# Altium footprint library BSPD_pcblibrary.PcbLib: 22 footprints (part 2 of 2)
Each footprint in its own frame and in the unit in brackets; x right, y up, seen from the top. Pads: shape width x height; smd on the part's side, far side on the other; paste and mask are expansions set on the pad; w line width, h text height; cw(c..) or ccw(c..) is an arc to the next point about the centre after c.
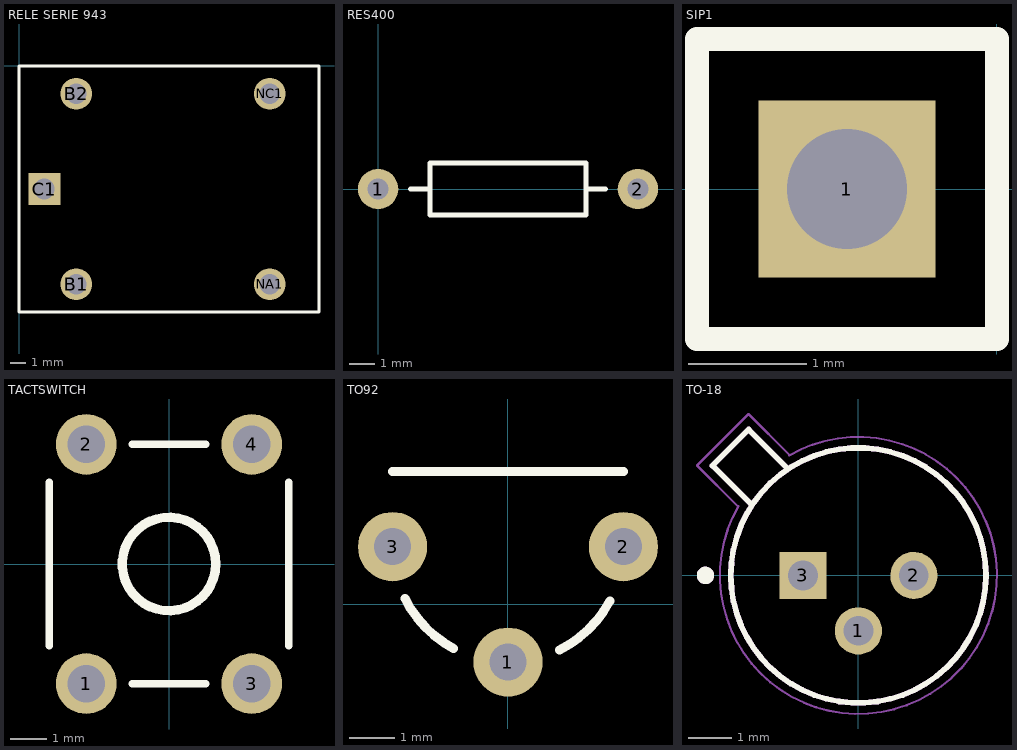
[diagram p1: the footprints below, top view; thin cyan lines are the x and y axes]

## RELE SERIE 943 [mm]
pads (5):
  round 2 hole 1.3: B1(3.6,-13.75) B2(3.6,-1.75) NA1(15.8,-13.75) NC1(15.8,-1.75)
  rect 2x2 hole 1.3: C1(1.6,-7.75)
Top Overlay:
  lines w0.2: 0,-15.5 18.9,-15.5 18.9,0 0,0 0,-15.5
3D body "SRD-05VDC-SL-C.STEP": height 15.81, standoff -2.99, extent -0.075,-15.674 19.125,-0.074

## RES400 [mil]
pads (2):
  round 62 hole 32: 1(0,0) 2(400,0)
Top Overlay:
  lines w7.87: 50,0 80,0 ; 320,0 350,0 ; 80,-40 80,40 320,40 320,-40 80,-40
3D body "RES400.step": height 95.81, standoff -119.69, extent -12,-45 412,46

## SIP1 [mm]
pads (1):
  rect 1.5x1.5 hole 1.016: 1(-1.27,0)
Top Overlay:
  lines w0.2: -2.54,-1.27 -2.54,1.27 0,1.27 0,-1.27 -2.54,-1.27

## TACTSWITCH [mil]
pads (4):
  round 65 hole 40: 1(-88.58,-127.95) 2(-88.58,127.95) 3(88.58,-127.95) 4(88.58,127.95)
Top Overlay:
  circle w10: c0,0 r50
  lines w7.87: -128.11,-87.48 -128.11,87.52 ; -39.37,-128.11 39.37,-128.11 ; -39.37,128.11 39.37,128.11 ; 128.11,-87.52 128.11,87.48
3D body "TACTSWITCH.step": height 275.59, standoff -137.8, extent -120,-155.51 124.1,155.51

## TO92 [mil]
pads (3):
  round 60 hole 32: 1(0,-50) 2(100,50) 3(-100,50)
Top Overlay:
  lines w7.87: -100,115 100,115 ; -89.44,5.28 ccw(c0,50) -47.06,-38.24 ; 44.72,-39.44 ccw(c0,50) 88.24,2.94
3D body "User Library-TO-92D.step": height 314.96, standoff -118.98, extent -109.74,-60.85 109.74,110

## TO-18 [mm]
height 5.33
pads (3):
  round 1.08 hole 0.68: 1(0,-1.27) 2(1.27,0)
  rect 1.08x1.08 / inner round 1.08 / far side rect 1.08x1.08 hole 0.68: 3(-1.27,0)
Top Overlay:
  circle w0.127: c0,0 r2.92
  circle w0.2: c-3.5,0 r0.1
  lines w0.127: -2.437,1.61 -3.341,2.514 -2.514,3.341 -1.61,2.437
Mechanical 13:
  circle w0.127: c0,0 r2.92
  circle w0.2: c-3.5,0 r0.1
  lines w0.127: -2.437,1.61 -3.341,2.514 -2.514,3.341 -1.61,2.437
Mechanical 15:
  lines w0.05: -2.753,1.572 -3.695,2.514 -2.514,3.695 -1.572,2.753 ; -2.745,1.586 ccw(c0.001,0) -2.241,-2.242 ccw(c0,0) 2.242,2.242 ccw(c0,-0.001) -1.586,2.745
3D body "step_temp.STEP": height 5.31, standoff -12.69, extent -3.302,-2.993 2.866,3.175